# EAGLE library part RPI_CM4 (library RPi_CM4)
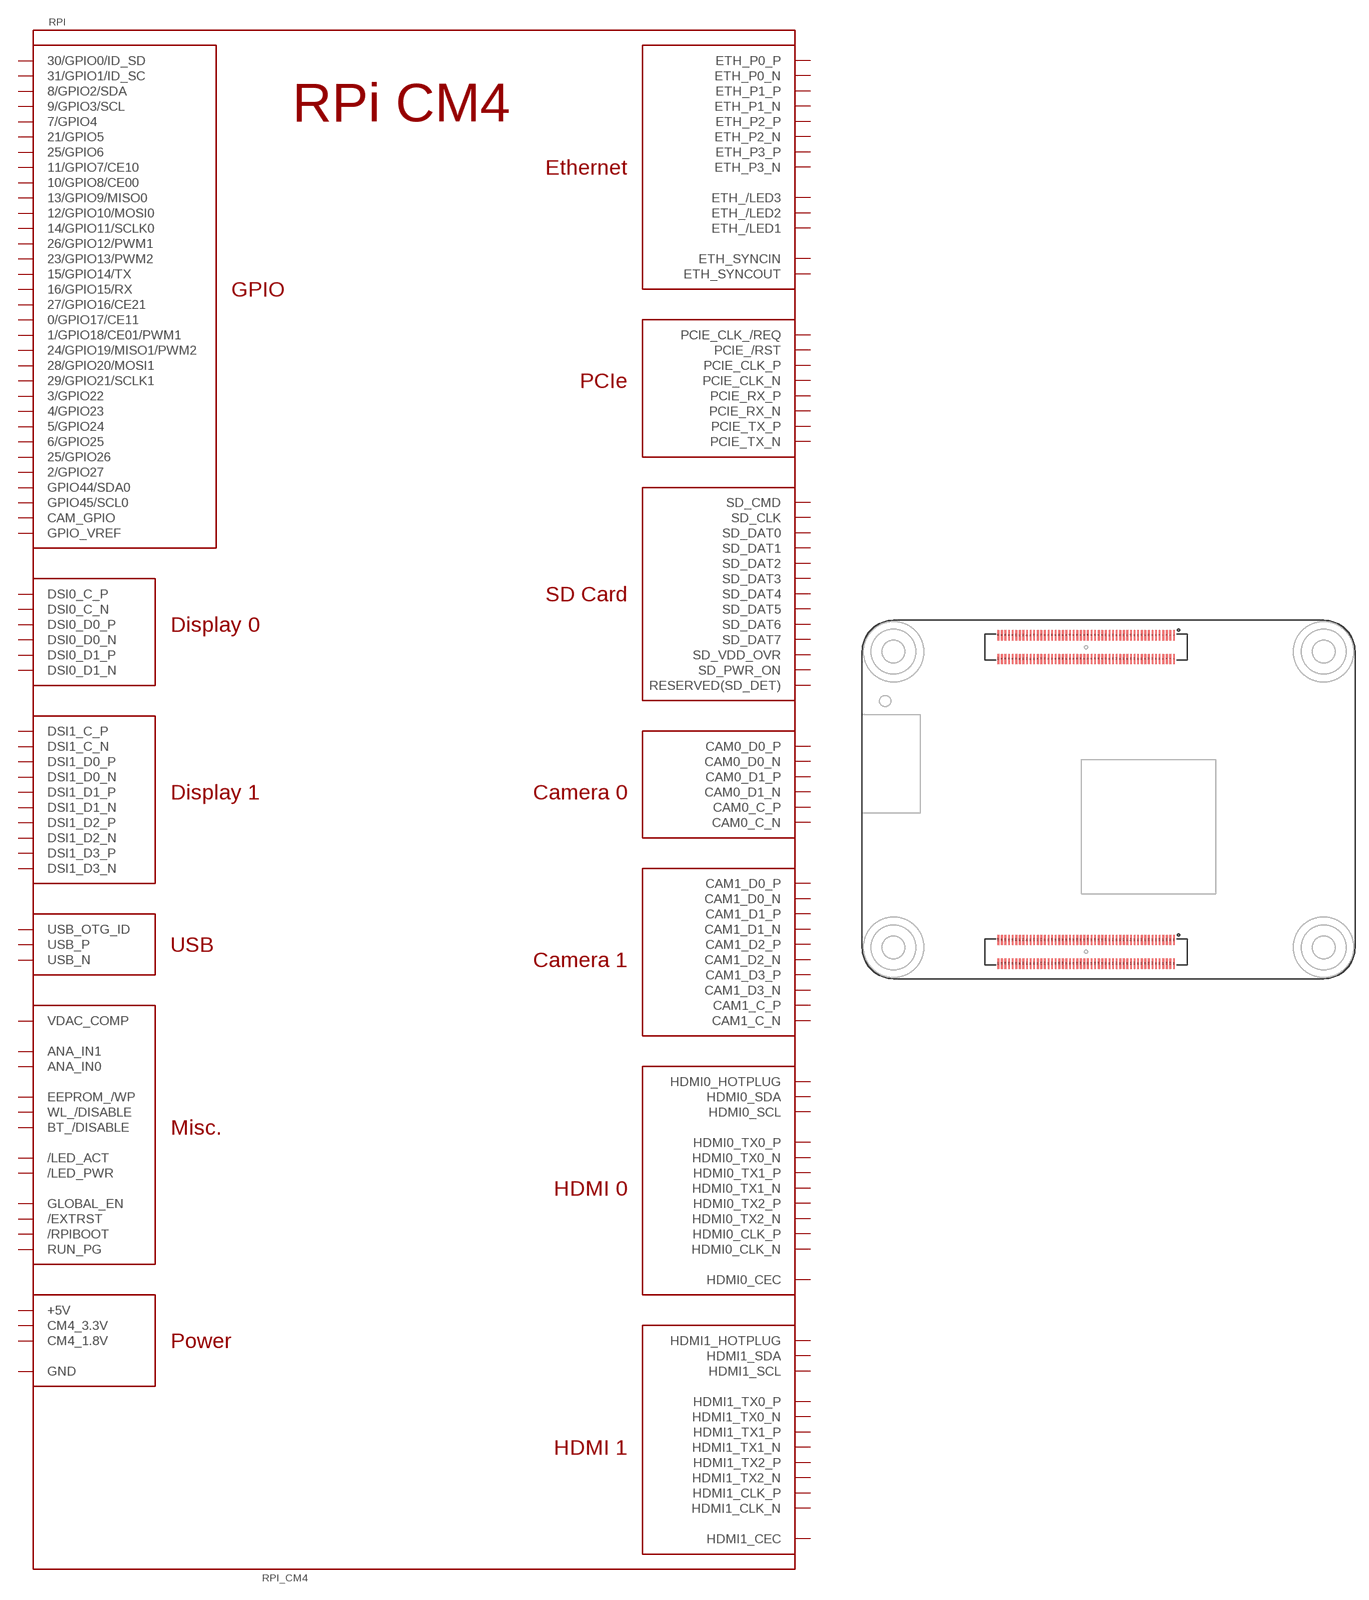
[diagram p0: symbol with the pads of RPI_CM4; footprint RPI_CM4]

Designator prefix RPI

## RPI_CM4RPI_CM4  [RPI_CM4]
1  GND  pas
2  GND  pas
3  ETH_P3_P  pas
4  ETH_P1_P  pas
5  ETH_P3_N  pas
6  ETH_P1_N  pas
7  GND  pas
8  GND  pas
9  ETH_P2_N  pas
10  ETH_P0_N  pas
11  ETH_P2_P  pas
12  ETH_P0_P  pas
13  GND  pas
14  GND  pas
15  ETH_/LED3  pas
16  ETH_SYNCIN  pas
17  ETH_/LED2  pas
18  ETH_SYNCOUT  pas
19  ETH_/LED1  pas
20  EEPROM_/WP  pas
21  /LED_ACT  pas
22  GND  pas
23  GND  pas
24  25/GPIO26  pas
25  29/GPIO21/SCLK1  pas
26  24/GPIO19/MISO1/PWM2  pas
27  28/GPIO20/MOSI1  pas
28  23/GPIO13/PWM2  pas
29  27/GPIO16/CE21  pas
30  25/GPIO6  pas
31  26/GPIO12/PWM1  pas
32  GND  pas
33  GND  pas
34  21/GPIO5  pas
35  31/GPIO1/ID_SC  pas
36  30/GPIO0/ID_SD  pas
37  11/GPIO7/CE10  pas
38  14/GPIO11/SCLK0  pas
39  10/GPIO8/CE00  pas
40  13/GPIO9/MISO0  pas
41  6/GPIO25  pas
42  GND  pas
43  GND  pas
44  12/GPIO10/MOSI0  pas
45  5/GPIO24  pas
46  3/GPIO22  pas
47  4/GPIO23  pas
48  2/GPIO27  pas
49  1/GPIO18/CE01/PWM1  pas
50  0/GPIO17/CE11  pas
51  16/GPIO15/RX  pas
52  GND  pas
53  GND  pas
54  7/GPIO4  pas
55  15/GPIO14/TX  pas
56  9/GPIO3/SCL  pas
57  SD_CLK  pas
58  8/GPIO2/SDA  pas
59  GND  pas
60  GND  pas
61  SD_DAT3  pas
62  SD_CMD  pas
63  SD_DAT0  pas
64  SD_DAT5  pas
65  GND  pas
66  GND  pas
67  SD_DAT1  pas
68  SD_DAT4  pas
69  SD_DAT2  pas
70  SD_DAT7  pas
71  GND  pas
72  SD_DAT6  pas
73  SD_VDD_OVR  pas
74  GND  pas
75  SD_PWR_ON  pas
76  RESERVED(SD_DET)  pas
77  +5V  pas
78  GPIO_VREF  pas
79  +5V  pas
80  GPIO45/SCL0  pas
81  +5V  pas
82  GPIO44/SDA0  pas
83  +5V  pas
84  CM4_3.3V  pas
85  +5V  pas
86  CM4_3.3V  pas
87  +5V  pas
88  CM4_1.8V  pas
89  WL_/DISABLE  pas
90  CM4_1.8V  pas
91  BT_/DISABLE  pas
92  RUN_PG  pas
93  /RPIBOOT  pas
94  ANA_IN1  pas
95  /LED_PWR  pas
96  ANA_IN0  pas
97  CAM_GPIO  pas
98  GND  pas
99  GLOBAL_EN  pas
100  /EXTRST  pas
101  USB_OTG_ID  pas
102  PCIE_CLK_/REQ  pas
103  USB_N  pas
105  USB_P  pas
107  GND  pas
108  GND  pas
109  PCIE_/RST  pas
110  PCIE_CLK_P  pas
111  VDAC_COMP  pas
112  PCIE_CLK_N  pas
113  GND  pas
114  GND  pas
115  CAM1_D0_N  pas
116  PCIE_RX_P  pas
117  CAM1_D0_P  pas
118  PCIE_RX_N  pas
119  GND  pas
120  GND  pas
121  CAM1_D1_N  pas
122  PCIE_TX_P  pas
123  CAM1_D1_P  pas
124  PCIE_TX_N  pas
125  GND  pas
126  GND  pas
127  CAM1_C_N  pas
128  DSI0_D0_N  pas
129  CAM1_C_P  pas
130  CAM0_D0_P  pas
131  GND  pas
132  GND  pas
133  CAM1_D2_N  pas
134  CAM0_D1_N  pas
135  CAM1_D2_P  pas
136  CAM0_D1_P  pas
137  GND  pas
138  GND  pas
139  CAM1_D3_N  pas
140  CAM0_C_N  pas
141  CAM1_D3_P  pas
142  CAM0_C_P  pas
143  HDMI1_HOTPLUG  pas
144  GND  pas
145  HDMI1_SDA  pas
146  HDMI1_TX2_P  pas
147  HDMI1_SCL  pas
148  HDMI1_TX2_N  pas
149  HDMI1_CEC  pas
150  GND  pas
151  HDMI0_CEC  pas
152  HDMI1_TX1_P  pas
153  HDMI0_HOTPLUG  pas
154  HDMI1_TX1_N  pas
155  GND  pas
156  GND  pas
157  CAM0_D0_N  pas
158  HDMI1_TX0_P  pas
159  DSI0_D0_P  pas
160  HDMI1_TX0_N  pas
161  GND  pas
162  GND  pas
163  DSI0_D1_N  pas
164  HDMI1_CLK_P  pas
165  DSI0_D1_P  pas
166  HDMI1_CLK_N  pas
167  GND  pas
168  GND  pas
169  DSI0_C_N  pas
170  HDMI0_TX2_P  pas
171  DSI0_C_P  pas
172  HDMI0_TX2_N  pas
173  GND  pas
174  GND  pas
175  DSI1_D0_N  pas
176  HDMI0_TX1_P  pas
177  DSI1_D0_P  pas
178  HDMI0_TX1_N  pas
179  GND  pas
180  GND  pas
181  DSI1_D1_N  pas
182  HDMI0_TX0_P  pas
183  DSI1_D1_P  pas
184  HDMI0_TX0_N  pas
185  GND  pas
186  GND  pas
187  DSI1_C_N  pas
188  HDMI0_CLK_P  pas
189  DSI1_C_P  pas
190  HDMI0_CLK_N  pas
191  GND  pas
192  GND  pas
193  DSI1_D2_N  pas
194  DSI1_D3_N  pas
195  DSI1_D2_P  pas
196  DSI1_D3_P  pas
197  GND  pas
198  GND  pas
199  HDMI0_SDA  pas
200  HDMI0_SCL  pas

## Footprint RPI_CM4 (pad centres in mm)
smd 0.2 x 1.14: 1 7.3,18.32; 2 7.3,15.68; 3 6.9,18.32; 4 6.9,15.68; 5 6.5,18.32; 6 6.5,15.68; 7 6.1,18.32; 8 6.1,15.68; 9 5.7,18.32; 10 5.7,15.68; 11 5.3,18.32; 12 5.3,15.68; 13 4.9,18.32; 14 4.9,15.68; 15 4.5,18.32; 16 4.5,15.68; 17 4.1,18.32; 18 4.1,15.68; 19 3.7,18.32; 20 3.7,15.68; 21 3.3,18.32; 22 3.3,15.68; 23 2.9,18.32; 24 2.9,15.68; 25 2.5,18.32; 26 2.5,15.68; 27 2.1,18.32; 28 2.1,15.68; 29 1.7,18.32; 30 1.7,15.68; 31 1.3,18.32; 32 1.3,15.68; 33 0.9,18.32; 34 0.9,15.68; 35 0.5,18.32; 36 0.5,15.68; 37 0.1,18.32; 38 0.1,15.68; 39 -0.3,18.32; 40 -0.3,15.68; 41 -0.7,18.32; 42 -0.7,15.68; 43 -1.1,18.32; 44 -1.1,15.68; 45 -1.5,18.32; 46 -1.5,15.68; 47 -1.9,18.32; 48 -1.9,15.68; 49 -2.3,18.32; 50 -2.3,15.68; 51 -2.7,18.32; 52 -2.7,15.68; 53 -3.1,18.32; 54 -3.1,15.68; 55 -3.5,18.32; 56 -3.5,15.68; 57 -3.9,18.32; 58 -3.9,15.68; 59 -4.3,18.32; 60 -4.3,15.68; 61 -4.7,18.32; 62 -4.7,15.68; 63 -5.1,18.32; 64 -5.1,15.68; 65 -5.5,18.32; 66 -5.5,15.68; 67 -5.9,18.32; 68 -5.9,15.68; 69 -6.3,18.32; 70 -6.3,15.68; 71 -6.7,18.32; 72 -6.7,15.68; 73 -7.1,18.32; 74 -7.1,15.68; 75 -7.5,18.32; 76 -7.5,15.68; 77 -7.9,18.32; 78 -7.9,15.68; 79 -8.3,18.32; 80 -8.3,15.68; 81 -8.7,18.32; 82 -8.7,15.68; 83 -9.1,18.32; 84 -9.1,15.68; 85 -9.5,18.32; 86 -9.5,15.68; 87 -9.9,18.32; 88 -9.9,15.68; 89 -10.3,18.32; 90 -10.3,15.68; 91 -10.7,18.32; 92 -10.7,15.68; 93 -11.1,18.32; 94 -11.1,15.68; 95 -11.5,18.32; 96 -11.5,15.68; 97 -11.9,18.32; 98 -11.9,15.68; 99 -12.3,18.32; 100 -12.3,15.68; 101 7.3,-15.68; 102 7.3,-18.32; 103 6.9,-15.68; 104 6.9,-18.32; 105 6.5,-15.68; 106 6.5,-18.32; 107 6.1,-15.68; 108 6.1,-18.32; 109 5.7,-15.68; 110 5.7,-18.32; 111 5.3,-15.68; 112 5.3,-18.32; 113 4.9,-15.68; 114 4.9,-18.32; 115 4.5,-15.68; 116 4.5,-18.32; 117 4.1,-15.68; 118 4.1,-18.32; 119 3.7,-15.68; 120 3.7,-18.32; 121 3.3,-15.68; 122 3.3,-18.32; 123 2.9,-15.68; 124 2.9,-18.32; 125 2.5,-15.68; 126 2.5,-18.32; 127 2.1,-15.68; 128 2.1,-18.32; 129 1.7,-15.68; 130 1.7,-18.32; 131 1.3,-15.68; 132 1.3,-18.32; 133 0.9,-15.68; 134 0.9,-18.32; 135 0.5,-15.68; 136 0.5,-18.32; 137 0.1,-15.68; 138 0.1,-18.32; 139 -0.3,-15.68; 140 -0.3,-18.32; 141 -0.7,-15.68; 142 -0.7,-18.32; 143 -1.1,-15.68; 144 -1.1,-18.32; 145 -1.5,-15.68; 146 -1.5,-18.32; 147 -1.9,-15.68; 148 -1.9,-18.32; 149 -2.3,-15.68; 150 -2.3,-18.32; 151 -2.7,-15.68; 152 -2.7,-18.32; 153 -3.1,-15.68; 154 -3.1,-18.32; 155 -3.5,-15.68; 156 -3.5,-18.32; 157 -3.9,-15.68; 158 -3.9,-18.32; 159 -4.3,-15.68; 160 -4.3,-18.32; 161 -4.7,-15.68; 162 -4.7,-18.32; 163 -5.1,-15.68; 164 -5.1,-18.32; 165 -5.5,-15.68; 166 -5.5,-18.32; 167 -5.9,-15.68; 168 -5.9,-18.32; 169 -6.3,-15.68; 170 -6.3,-18.32; 171 -6.7,-15.68; 172 -6.7,-18.32; 173 -7.1,-15.68; 174 -7.1,-18.32; 175 -7.5,-15.68; 176 -7.5,-18.32; 177 -7.9,-15.68; 178 -7.9,-18.32; 179 -8.3,-15.68; 180 -8.3,-18.32; 181 -8.7,-15.68; 182 -8.7,-18.32; 183 -9.1,-15.68; 184 -9.1,-18.32; 185 -9.5,-15.68; 186 -9.5,-18.32; 187 -9.9,-15.68; 188 -9.9,-18.32; 189 -10.3,-15.68; 190 -10.3,-18.32; 191 -10.7,-15.68; 192 -10.7,-18.32; 193 -11.1,-15.68; 194 -11.1,-18.32; 195 -11.5,-15.68; 196 -11.5,-18.32; 197 -11.9,-15.68; 198 -11.9,-18.32; 199 -12.3,-15.68; 200 -12.3,-18.32